# Altium footprint library AJ066-30-008-02_Fan backplane.PcbLib: 19 footprints (part 2 of 2)
Each footprint in its own frame and in the unit in brackets; x right, y up, seen from the top. Pads: shape width x height; smd on the part's side, far side on the other; paste and mask are expansions set on the pad; w line width, h text height; cw(c..) or ccw(c..) is an arc to the next point about the centre after c.
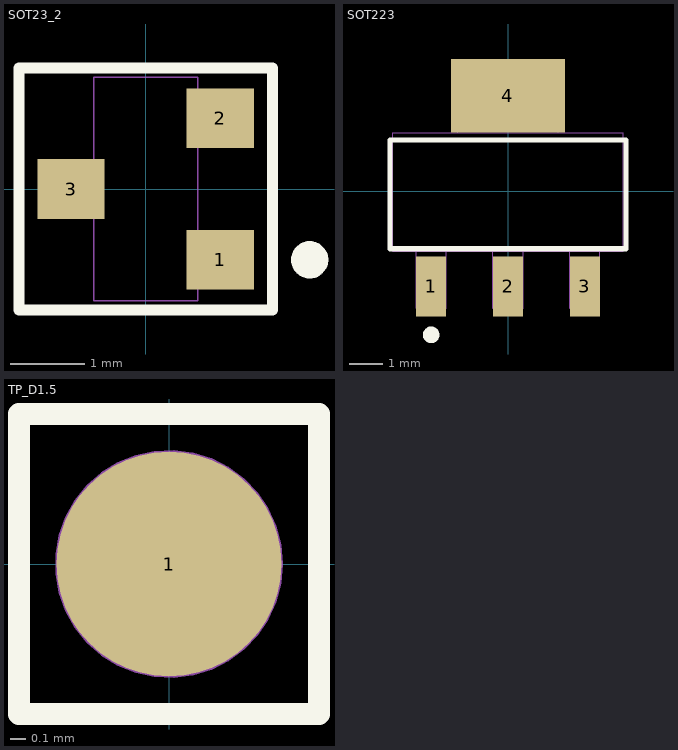
[diagram p1: the footprints below, top view; thin cyan lines are the x and y axes]

## SOT23_2 [mm]
pads (3):
  rect 0.9x0.8 smd: 1(1,-0.95) 2(1,0.95) 3(-1,0)
Top Overlay:
  circle w0.25: c2.2,-0.95 r0.125
  lines w0.15: -1.7,-1.625 1.7,-1.625 1.7,1.625 -1.7,1.625 -1.7,-1.625
Top Assembly:
  lines w0.02: -0.7,-0.25 -1.3,-0.25 -1.3,0.25 -0.7,0.25 ; 0.7,-1.2 1.3,-1.2 1.3,-0.7 0.7,-0.7 ; 0.7,0.7 1.3,0.7 1.3,1.2 0.7,1.2 ; -0.7,-1.5 -0.7,1.5 0.7,1.5 0.7,-1.5 -0.7,-1.5
  text "'.Designator'" at -0.599,1.63 h0.5
  text "1" at 0.976,-1.105 h0.25
  text "2" at 0.943,0.802 h0.25
  text "3" at -1.111,-0.12 h0.25
3D body "SOT-23.STEP": height 1.05, standoff -0.05, extent -1.25,-1.5 1.25,1.5

## SOT223 [mm]
height 1.8
pads (4):
  rect 0.9x1.8 smd: 1(-2.3,-2.85) 2(0,-2.85) 3(2.3,-2.85)
  rect 3.4x2.2 smd: 4(0,2.85)
Top Overlay:
  circle w0.25: c-2.3,-4.3 r0.125
  lines w0.15: -3.525,-1.725 -3.525,1.525 3.525,1.525 3.525,-1.725 -3.525,-1.725
Top Assembly:
  lines w0.01: -2.75,-1.8 -2.75,-3.5 -1.85,-3.5 -1.85,-1.8 ; -1.5,1.75 -1.5,2.9 1.5,2.9 1.5,1.75 ; -0.45,-1.8 -0.45,-3.5 0.45,-3.5 0.45,-1.8 ; 1.85,-1.8 1.85,-3.5 2.75,-3.5 2.75,-1.8 ; -3.45,-1.8 -3.45,1.75 3.45,1.75 3.45,-1.8 -3.45,-1.8
  text "'.Designator'" at 0.861,-3.77 h1
  text "1" at -2.434,-3.068 h0.75
3D body "SOT-223.step": height 1.7, standoff 0.02, extent -3.25,-3.38 3.25,3.58

## TP_D1.5 [mm] "1.0mm"
pads (1):
  round 1.5 smd paste-1.1 mask+0.05: 1(0,0)
Top Overlay:
  lines w0.15: -1,-1 1,-1 1,1 -1,1 -1,-1
Top Assembly:
  circle w0.02: c0,0 r0.75
  text "'.Designator'" at -0.149,0.652 h0.35
Mechanical 13:
  lines w0.1: -1,-1 -1,1 1,1 1,-1 -1,-1
Mechanical 15:
  lines w0.1: -0.5,0 0.5,0 ; 0,-0.5 0,0.5 ; -1,-1 -1,1 1,1 1,-1 -1,-1
3D body: height 0.1, standoff 0, extent -0.747,-0.749 0.747,0.749